# Altium schematic symbol library SolderBrige.SchLib: 1 symbol
Pins are listed as number, name and electrical type; pins without a type are passive.

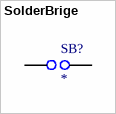
[diagram p0: symbol SolderBrige]

## SolderBrige
designator SB?
footprint SolderBrige
pins: 1, 2